# EAGLE library part CLP-112-XX-X-DH-XX (library con-samtec-clp)
RECEPTACAL
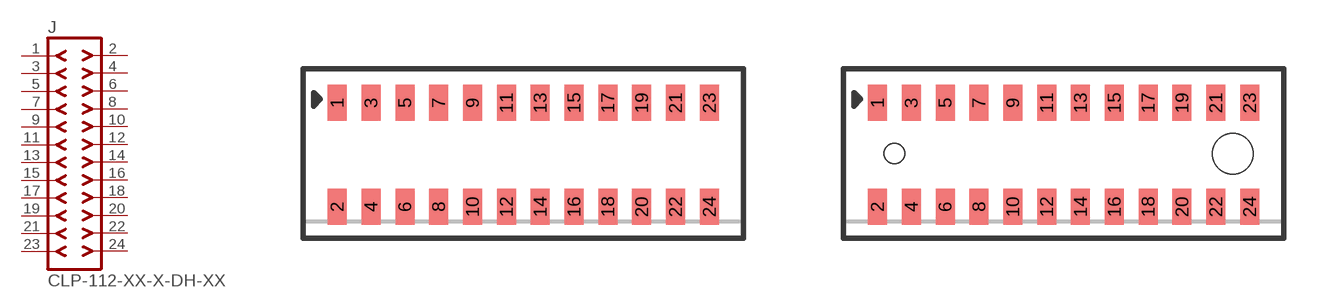
[diagram p8: symbol with the pads of CLP-112-XX-X-DH; footprints CLP-112-XX-X-DH, CLP-112-XX-X-DH-A]

Designator prefix J

## CLP-112-XX-X-DH-XX  [CLP-112-XX-X-DH]
1  1  pas
2  2  pas
3  3  pas
4  4  pas
5  5  pas
6  6  pas
7  7  pas
8  8  pas
9  9  pas
10  10  pas
11  11  pas
12  12  pas
13  13  pas
14  14  pas
15  15  pas
16  16  pas
17  17  pas
18  18  pas
19  19  pas
20  20  pas
21  21  pas
22  22  pas
23  23  pas
24  24  pas

## CLP-112-XX-X-DH-XXA  [CLP-112-XX-X-DH-A]
Pads as for CLP-112-XX-X-DH

## Footprint CLP-112-XX-X-DH (pad centres in mm)
RECEPTACAL
smd 0.711 x 1.346: 1 -6.985,1.905; 2 -6.985,-1.994; 3 -5.715,1.905; 4 -5.715,-1.994; 5 -4.445,1.905; 6 -4.445,-1.994; 7 -3.175,1.905; 8 -3.175,-1.994; 9 -1.905,1.905; 10 -1.905,-1.994; 11 -0.635,1.905; 12 -0.635,-1.994; 13 0.635,1.905; 14 0.635,-1.994; 15 1.905,1.905; 16 1.905,-1.994; 17 3.175,1.905; 18 3.175,-1.994; 19 4.445,1.905; 20 4.445,-1.994; 21 5.715,1.905; 22 5.715,-1.994; 23 6.985,1.905; 24 6.985,-1.994

## Footprint CLP-112-XX-X-DH-A (pad centres in mm)
RECEPTACAL
smd 0.711 x 1.346: 1 -6.985,1.905; 2 -6.985,-1.994; 3 -5.715,1.905; 4 -5.715,-1.994; 5 -4.445,1.905; 6 -4.445,-1.994; 7 -3.175,1.905; 8 -3.175,-1.994; 9 -1.905,1.905; 10 -1.905,-1.994; 11 -0.635,1.905; 12 -0.635,-1.994; 13 0.635,1.905; 14 0.635,-1.994; 15 1.905,1.905; 16 1.905,-1.994; 17 3.175,1.905; 18 3.175,-1.994; 19 4.445,1.905; 20 4.445,-1.994; 21 5.715,1.905; 22 5.715,-1.994; 23 6.985,1.905; 24 6.985,-1.994
hole 0.762 at -6.35,0
hole 1.524 at 6.35,0